# Altium footprint library HEXCAL_PCB_LIB.PcbLib: 209 footprints (part 7 of 14)
Each footprint in its own frame and in the unit in brackets; x right, y up, seen from the top. Pads: shape width x height; smd on the part's side, far side on the other; paste and mask are expansions set on the pad; w line width, h text height; cw(c..) or ccw(c..) is an arc to the next point about the centre after c.
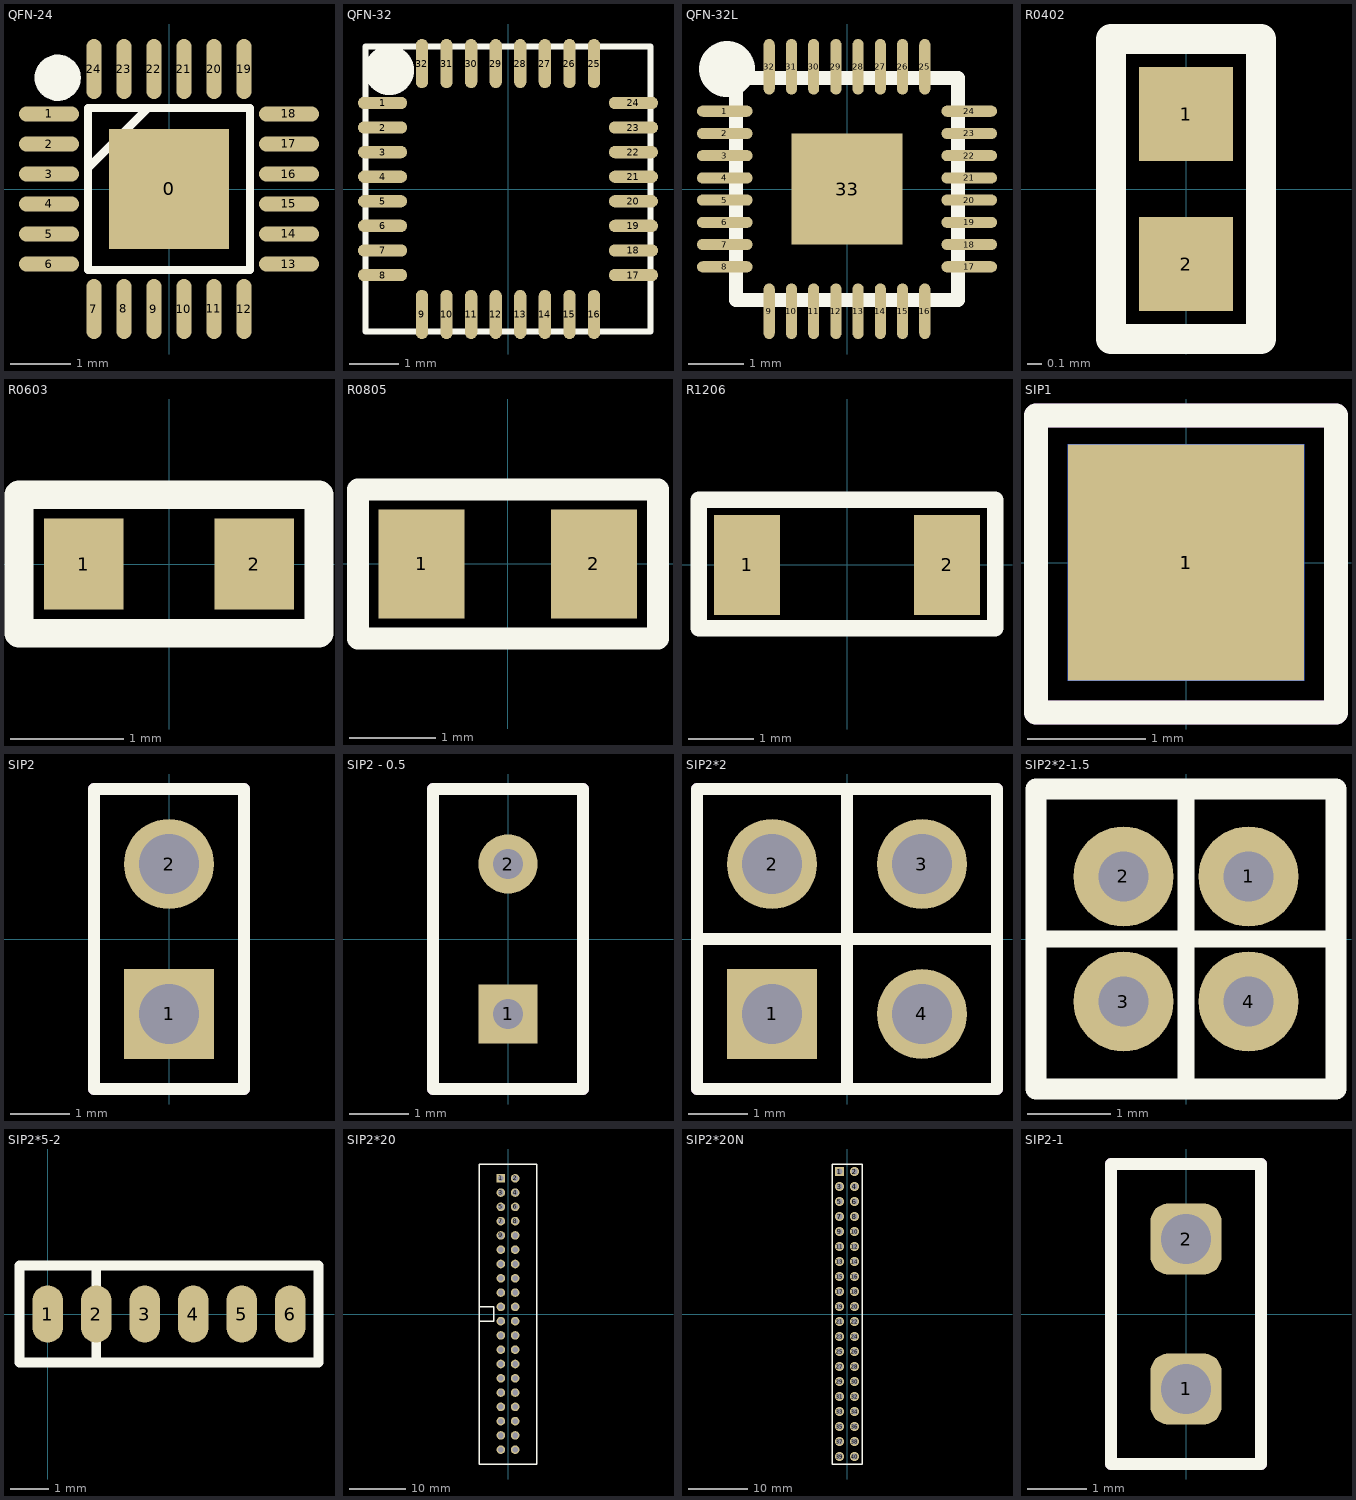
[diagram p6: the footprints below, top view; thin cyan lines are the x and y axes]

## QFN-24 [mm]
pads (25):
  rect 2x2 smd: 0(0,0)
  oval 1x0.25 smd: 1(-2,1.25) 2(-2,0.75) 3(-2,0.25) 4(-2,-0.25) 5(-2,-0.75) 6(-2,-1.25) 13(2,-1.25) 14(2,-0.75) 15(2,-0.25) 16(2,0.25) 17(2,0.75) 18(2,1.25)
  oval 0.25x1 smd: 7(-1.25,-2) 8(-0.75,-2) 9(-0.25,-2) 10(0.25,-2) 11(0.75,-2) 12(1.25,-2) 19(1.25,2) 20(0.75,2) 21(0.25,2) 22(-0.25,2) 23(-0.75,2) 24(-1.25,2)
Top Overlay:
  circle w0.254: c-1.854,1.854 r0.259
  circle w0.254: c-1.854,1.854 r0.127
  lines w0.127: -1.35,0.35 -0.35,1.35 ; -1.35,-1.35 1.35,-1.35 1.35,1.35 -1.35,1.35 -1.35,-1.35

## QFN-32 [mm]
pads (32):
  oval 1x0.25 smd: 1(-2.55,1.75) 2(-2.55,1.25) 3(-2.55,0.75) 4(-2.55,0.25) 5(-2.55,-0.25) 6(-2.55,-0.75) 7(-2.55,-1.25) 8(-2.55,-1.75) 17(2.55,-1.75) 18(2.55,-1.25) 19(2.55,-0.75) 20(2.55,-0.25) 21(2.55,0.25) 22(2.55,0.75) 23(2.55,1.25) 24(2.55,1.75)
  oval 0.25x1 smd: 9(-1.75,-2.55) 10(-1.25,-2.55) 11(-0.75,-2.55) 12(-0.25,-2.55) 13(0.25,-2.55) 14(0.75,-2.55) 15(1.25,-2.55) 16(1.75,-2.55) 25(1.75,2.55) 26(1.25,2.55) 27(0.75,2.55) 28(0.25,2.55) 29(-0.25,2.55) 30(-0.75,2.55) 31(-1.25,2.55) 32(-1.75,2.55)
Top Overlay:
  circle w0.889: c-2.413,2.413 r0.057
  lines w0.127: -2.9,-2.9 2.9,-2.9 2.9,2.9 -2.9,2.9 -2.9,-2.9

## QFN-32L [mm]
pads (33):
  oval 1x0.2 smd: 1(-2.2,1.4) 2(-2.2,1) 3(-2.2,0.6) 4(-2.2,0.2) 5(-2.2,-0.2) 6(-2.2,-0.6) 7(-2.2,-1) 8(-2.2,-1.4) 17(2.2,-1.4) 18(2.2,-1) 19(2.2,-0.6) 20(2.2,-0.2) 21(2.2,0.2) 22(2.2,0.6) 23(2.2,1) 24(2.2,1.4)
  oval 0.2x1 smd: 9(-1.4,-2.2) 10(-1,-2.2) 11(-0.6,-2.2) 12(-0.2,-2.2) 13(0.2,-2.2) 14(0.6,-2.2) 15(1,-2.2) 16(1.4,-2.2) 25(1.4,2.2) 26(1,2.2) 27(0.6,2.2) 28(0.2,2.2) 29(-0.2,2.2) 30(-0.6,2.2) 31(-1,2.2) 32(-1.4,2.2)
  rect 2x2 smd: 33(0,0)
Top Overlay:
  circle w0.889: c-2.159,2.159 r0.057
  lines w0.127: -2,-2 2,-2 ; -2,2 2,2
  lines w0.254: -2,-2 -2,2 2,2 2,-2 -2,-2

## R0402 [mil]
pads (2):
  rect 25x25 smd: 1(0,20) 2(0,-20)
Top Overlay:
  lines w8: -20,-40 20,-40 20,40 -20,40 -20,-40

## R0603 [mm]
pads (2):
  rect 0.7x0.8 smd: 1(-0.75,0) 2(0.75,0)
Top Overlay:
  lines w0.254: -1.321,-0.61 -1.321,0.61 1.321,0.61 1.321,-0.61 -1.321,-0.61

## R0805 [mm]
pads (2):
  rect 1x1.27 smd: 1(-1,0) 2(1,0)
Top Overlay:
  lines w0.254: -1.737,-0.864 0.651,-0.864 1.743,-0.864 1.743,0.864 0.651,0.864 -1.737,0.864 -1.737,-0.864

## R1206 [mil]
pads (2):
  rect 39.37x60 smd: 1(-60,0) 2(60,0)
Top Overlay:
  lines w10: -89,-38 -89,39 89,39 89,-38 -89,-38

## SIP1 [mm]
pads (2):
  rect 2x2 smd far side: 1(0,0)
  rect 2x2 smd: 1(0,0)
Top Overlay:
  lines w0.203: -1.27,-1.27 -1.27,1.245 1.27,1.245 1.27,-1.27 -1.27,-1.27
Mechanical 7:
  lines w0.203: -1.27,-1.27 -1.27,1.245 1.27,1.245 1.27,-1.27 -1.27,-1.27

## SIP2 [mil]
pads (2):
  rect 60x60 hole 40: 1(0,-50)
  round 60 hole 40: 2(0,50)
Top Overlay:
  lines w8: -50,-100 -50,100 50,100 50,-100 -50,-100
Mechanical 7:
  lines w8: -50,-100 50,-100 50,100 -50,100 -50,-100

## SIP2 - 0.5 [mm]
pads (2):
  rect 1x1 hole 0.5: 1(0,-1.27)
  round 1 hole 0.5: 2(0,1.27)
Top Overlay:
  lines w0.203: -1.27,-2.54 1.27,-2.54 1.27,2.54 -1.27,2.54 -1.27,-2.54
Mechanical 7:
  lines w0.203: -1.27,-2.54 -1.27,2.54 1.27,2.54 1.27,-2.54 -1.27,-2.54

## SIP2*2 [mil]
pads (4):
  rect 60x60 hole 40: 1(-50,-50)
  round 60 hole 40: 2(-50,50) 3(50,50) 4(50,-50)
Top Overlay:
  lines w8: -100,-100 -100,0 ; -100,-100 100,-100 100,0 ; -100,-100 0,-100 0,100 -100,100 ; -100,-100 -100,100 ; -100,0 100,0 ; -100,0 -100,100 ; -100,0 100,0 ; -100,100 100,100 100,0
Mechanical 7:
  lines w8: -100,-100 100,-100 100,0 ; -100,-100 -100,0 ; -100,-100 -100,100 ; -100,-100 0,-100 0,100 -100,100 ; -100,0 -100,100 ; -100,0 100,0 ; -100,0 100,0 ; -100,100 100,100 100,0

## SIP2*2-1.5 [mm]
pads (4):
  round 1.2 hole 0.6: 1(0.75,0.75) 2(-0.75,0.75) 3(-0.75,-0.75) 4(0.75,-0.75)
Top Overlay:
  lines w0.203: -1.8,0 1.8,0 ; 0,-1.8 0,1.8
  lines w0.254: -1.8,-1.8 -0.34,-1.8 1.8,-1.8 1.8,-0.34 1.8,1.8 -0.74,1.8 -1.8,1.8 -1.8,0.34 -1.8,-1.8

## SIP2*5-2 [mm]
pads (6):
  oval 0.8x1.5 smd: 1(0,0) 2(1.27,0) 3(2.54,0) 4(3.81,0) 5(5.08,0) 6(6.35,0)
Top Overlay:
  lines w0.254: 1.27,-1.27 1.27,1.27 ; -0.737,-1.27 -0.737,1.27 7.087,1.27 7.087,-1.27 -0.737,-1.27

## SIP2*20 [mil]
pads (40):
  rect 60x60 hole 40: 1(-50,950)
  round 60 hole 40: 2(50,950) 3(-50,850) 4(50,850) 5(-50,750) 6(50,750) 7(-50,650) 8(50,650) 9(-50,550) 10(50,550) 11(-50,450) 12(50,450) 13(-50,350) 14(50,350) 15(-50,250) 16(50,250) 17(-50,150) 18(50,150) 19(-50,50) 20(50,50) 21(-50,-50) 22(50,-50) 23(-50,-150) 24(50,-150) 25(-50,-250) 26(50,-250) 27(-50,-350) 28(50,-350) 29(-50,-450) 30(50,-450) 31(-50,-550) 32(50,-550) 33(-50,-650) 34(50,-650) 35(-50,-750) 36(50,-750) 37(-50,-850) 38(50,-850) 39(-50,-950) 40(50,-950)
Top Overlay:
  lines w10: -200,-50 -100,-50 -100,50 -200,50 ; -200,-1050 -200,1050 200,1050 200,-1050 -200,-1050

## SIP2*20N [mil]
pads (40):
  rect 60x60 hole 40: 1(-50,950)
  round 60 hole 40: 2(50,950) 3(-50,850) 4(50,850) 5(-50,750) 6(50,750) 7(-50,650) 8(50,650) 9(-50,550) 10(50,550) 11(-50,450) 12(50,450) 13(-50,350) 14(50,350) 15(-50,250) 16(50,250) 17(-50,150) 18(50,150) 19(-50,50) 20(50,50) 21(-50,-50) 22(50,-50) 23(-50,-150) 24(50,-150) 25(-50,-250) 26(50,-250) 27(-50,-350) 28(50,-350) 29(-50,-450) 30(50,-450) 31(-50,-550) 32(50,-550) 33(-50,-650) 34(50,-650) 35(-50,-750) 36(50,-750) 37(-50,-850) 38(50,-850) 39(-50,-950) 40(50,-950)
Top Overlay:
  lines w10: -100,-1000 -100,1000 100,1000 100,-1000 -100,-1000

## SIP2-1 [mm]
pads (2):
  rrect50% 1.2x1.2 hole 0.85: 1(0,-1.27) 2(0,1.27)
Top Overlay:
  lines w0.203: -1.27,-2.54 -1.27,2.54 1.27,2.54 1.27,-2.54 -1.27,-2.54
Mechanical 7:
  lines w0.203: -1.27,-2.54 1.27,-2.54 1.27,2.54 -1.27,2.54 -1.27,-2.54